# Altium footprint library SM_DIODE_MICROSMP.PcbLib: 1 footprints
Each footprint in its own frame and in the unit in brackets; x right, y up, seen from the top. Pads: shape width x height; smd on the part's side, far side on the other; paste and mask are expansions set on the pad; w line width, h text height; cw(c..) or ccw(c..) is an arc to the next point about the centre after c.
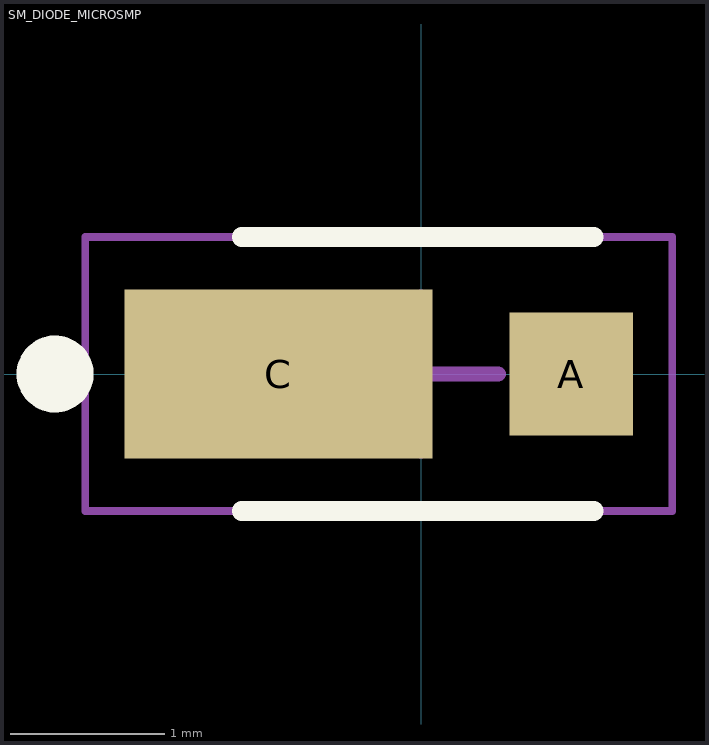
[diagram p0: the footprint, top view; thin cyan lines are the x and y axes]

## SM_DIODE_MICROSMP [mm] "MicroSMP Trench MOS Barrier Schottky Diode"
height 0.73
pads (2):
  rect 0.8x0.8 smd: A(0.975,0)
  rect 2x1.1 smd: C(-0.925,0)
Top Overlay:
  circle w0.25: c-2.375,0 r0.125
  lines w0.127: -1.164,-0.889 1.122,-0.889 ; -1.164,0.889 1.122,0.889
Mechanical 15:
  lines w0.05: -2.18,-0.889 1.63,-0.889 1.63,0.889 -2.18,0.889 -2.18,-0.889
  lines w0.1: -0.5,0 0.5,0 ; 0,-0.5 0,0.5
3D body: height 0.27, standoff 0, extent -1.35,-0.49 0.15,0.49
3D body: height 0.27, standoff 0, extent 0.6,-0.375 1.35,0.375
3D body: height 0.73, standoff 0.73, extent -0.25,-0.25 0.5,0.25
3D body: height 0.73, standoff 0.73, extent -1.075,-0.6 -0.975,0.6
3D body: height 0.73, standoff 0, extent -1.15,-0.7 1.15,0.7